# Altium footprint library Footprints.PcbLib: 146 footprints (part 2 of 10)
Each footprint in its own frame and in the unit in brackets; x right, y up, seen from the top. Pads: shape width x height; smd on the part's side, far side on the other; paste and mask are expansions set on the pad; w line width, h text height; cw(c..) or ccw(c..) is an arc to the next point about the centre after c.
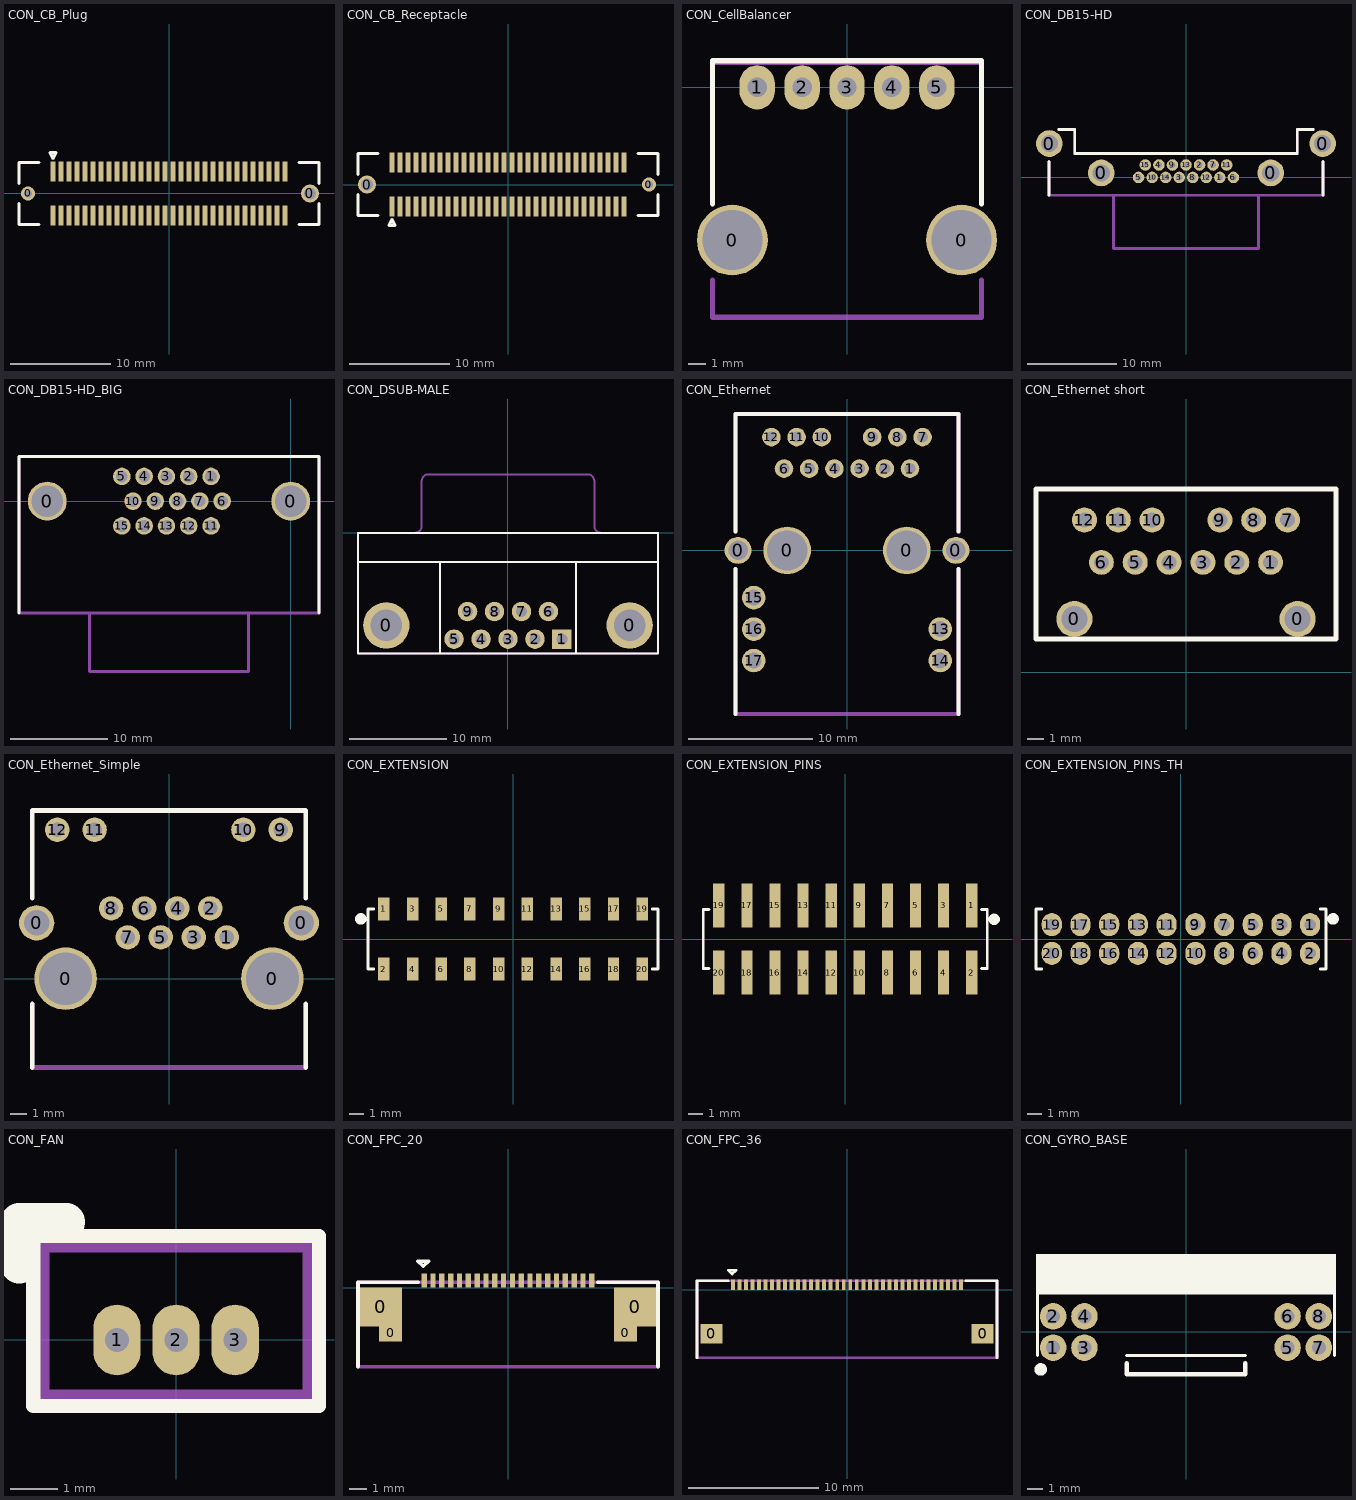
[diagram p1: the footprints below, top view; thin cyan lines are the x and y axes]

## CON_CB_Plug [mm] "Baseboard to Connector board - Baseboard side - 179031-2"
height 8
pads (62):
  round 1.4 hole 0.8: 0(-14.1,0)
  round 1.8 hole 1.2: 0(14.1,0)
  rect 0.5x2 smd: 1(-11.6,2.2) 2(-11.6,-2.2) 3(-10.8,2.2) 4(-10.8,-2.2) 5(-10,2.2) 6(-10,-2.2) 7(-9.2,2.2) 8(-9.2,-2.2) 9(-8.4,2.2) 10(-8.4,-2.2) 11(-7.6,2.2) 12(-7.6,-2.2) 13(-6.8,2.2) 14(-6.8,-2.2) 15(-6,2.2) 16(-6,-2.2) 17(-5.2,2.2) 18(-5.2,-2.2) 19(-4.4,2.2) 20(-4.4,-2.2) 21(-3.6,2.2) 22(-3.6,-2.2) 23(-2.8,2.2) 24(-2.8,-2.2) 25(-2,2.2) 26(-2,-2.2) 27(-1.2,2.2) 28(-1.2,-2.2) 29(-0.4,2.2) 30(-0.4,-2.2) 31(0.4,2.2) 32(0.4,-2.2) 33(1.2,2.2) 34(1.2,-2.2) 35(2,2.2) 36(2,-2.2) 37(2.8,2.2) 38(2.8,-2.2) 39(3.6,2.2) 40(3.6,-2.2) 41(4.4,2.2) 42(4.4,-2.2) 43(5.2,2.2) 44(5.2,-2.2) 45(6,2.2) 46(6,-2.2) 47(6.8,2.2) 48(6.8,-2.2) 49(7.6,2.2) 50(7.6,-2.2) 51(8.4,2.2) 52(8.4,-2.2) 53(9.2,2.2) 54(9.2,-2.2) 55(10,2.2) 56(10,-2.2) 57(10.8,2.2) 58(10.8,-2.2) 59(11.6,2.2) 60(11.6,-2.2)
Top Overlay:
  lines w0.3: -15,-1 -15,-3.1 -13,-3.1 ; -15,1 -15,3.1 -13,3.1 ; 13,-3.1 15,-3.1 15,-1 ; 13,3.1 15,3.1 15,1 ; -11.9,4.1 -11.6,3.5 -11.3,4.1 -11.9,4.1

## CON_CB_Receptacle [mm] "Baseboard to Connector board - CB side - 177983-2"
height 8
pads (62):
  round 1.8 hole 1.2: 0(-14.1,0)
  round 1.4 hole 0.8: 0(14.1,0)
  rect 0.5x2 smd: 1(-11.6,-2.2) 2(-11.6,2.2) 3(-10.8,-2.2) 4(-10.8,2.2) 5(-10,-2.2) 6(-10,2.2) 7(-9.2,-2.2) 8(-9.2,2.2) 9(-8.4,-2.2) 10(-8.4,2.2) 11(-7.6,-2.2) 12(-7.6,2.2) 13(-6.8,-2.2) 14(-6.8,2.2) 15(-6,-2.2) 16(-6,2.2) 17(-5.2,-2.2) 18(-5.2,2.2) 19(-4.4,-2.2) 20(-4.4,2.2) 21(-3.6,-2.2) 22(-3.6,2.2) 23(-2.8,-2.2) 24(-2.8,2.2) 25(-2,-2.2) 26(-2,2.2) 27(-1.2,-2.2) 28(-1.2,2.2) 29(-0.4,-2.2) 30(-0.4,2.2) 31(0.4,-2.2) 32(0.4,2.2) 33(1.2,-2.2) 34(1.2,2.2) 35(2,-2.2) 36(2,2.2) 37(2.8,-2.2) 38(2.8,2.2) 39(3.6,-2.2) 40(3.6,2.2) 41(4.4,-2.2) 42(4.4,2.2) 43(5.2,-2.2) 44(5.2,2.2) 45(6,-2.2) 46(6,2.2) 47(6.8,-2.2) 48(6.8,2.2) 49(7.6,-2.2) 50(7.6,2.2) 51(8.4,-2.2) 52(8.4,2.2) 53(9.2,-2.2) 54(9.2,2.2) 55(10,-2.2) 56(10,2.2) 57(10.8,-2.2) 58(10.8,2.2) 59(11.6,-2.2) 60(11.6,2.2)
Top Overlay:
  lines w0.3: -15,-1 -15,-3.1 -13,-3.1 ; -15,1 -15,3.1 -13,3.1 ; 13,-3.1 15,-3.1 15,-1 ; 13,3.1 15,3.1 15,1 ; -11.9,-4.1 -11.6,-3.5 -11.3,-4.1 -11.9,-4.1

## CON_CellBalancer [mm] "Connector for a 5-pin Cell Balancer"
height 4.2
pads (7):
  round 4 hole 3.4: 0(-6.48,-8.636) 0(6.48,-8.636)
  oval 2x2.5 hole 1.1: 1(-5.08,0) 2(-2.54,0) 3(0,0) 4(2.54,0) 5(5.08,0)
Top Overlay:
  lines w0.3: -7.6,-6.6 -7.6,-1.5 -7.6,1.5 7.6,1.5 7.6,-1.5 7.6,-6.6
Mechanical 1:
  lines w0.3: -7.6,-10.9 -7.6,-13 7.6,-13 7.6,-10.9 ; -7.6,-6.6 -7.6,-1.5 -7.6,1.4 7.6,1.4 7.6,-1.5 7.6,-6.6

## CON_DB15-HD [mm] "DB15 HD connector - 15 pins"
height 12.5
pads (19):
  round 3 hole 1.93: 0(-15.367,3.81) 0(-9.525,0.508) 0(9.525,0.508) 0(15.367,3.81)
  round 1.3 hole 0.7: 1(3.81,0) 2(1.524,1.4) 3(-0.762,0) 4(-3.048,1.4) 5(-5.334,0) 6(5.334,0) 7(3.048,1.4) 8(0.762,0) 9(-1.524,1.4) 10(-3.81,0) 11(4.572,1.4) 12(2.286,0) 13(0,1.4) 14(-2.286,0) 15(-4.572,1.4)
Top Overlay:
  lines w0.3: -15.4,-2 -15.4,1.8 ; -15.4,3.8 -15.4,4.5 ; -14.3,5.4 -12.5,5.4 -12.5,2.7 12.5,2.7 12.5,5.4 14.3,5.4 ; 15.4,-2 15.4,1.8 ; 15.4,3.8 15.4,4.5
Mechanical 1:
  lines w0.3: -15.4,1.8 -15.4,-2 15.4,-2 15.4,1.8 ; -14.3,5.4 -12.5,5.4 -12.5,2.7 12.5,2.7 12.5,5.4 14.3,5.4 ; -8.15,-2.1 -8.15,-8 8.15,-8 8.15,-2.1

## CON_DB15-HD_BIG [mm] "DB15 HD connector - 15 pins"
height 12.5
pads (17):
  round 4 hole 3.2: 0(-25,0) 0(0,0)
  round 1.8 hole 1.2: 1(-8.18,2.54) 2(-10.47,2.54) 3(-12.76,2.54) 4(-15.05,2.54) 5(-17.34,2.54) 6(-7.04,0) 7(-9.33,0) 8(-11.62,0) 9(-13.91,0) 10(-16.2,0) 11(-8.18,-2.54) 12(-10.47,-2.54) 13(-12.76,-2.54) 14(-15.05,-2.54) 15(-17.34,-2.54)
Top Overlay:
  lines w0.3: -27.9,-11.5 -27.9,4.6 2.9,4.6 2.9,-11.5
Mechanical 1:
  lines w0.3: -20.65,-11.5 -20.65,-17.5 -4.35,-17.5 -4.35,-11.5 ; -27.9,-11.5 2.9,-11.5 2.9,4.6 -27.9,4.6 -27.9,-11.5

## CON_DSUB-MALE [mm] "Connector; MALE D Subminiature; 9 Position; Right Angle; Pitch 1.385 mm"
height 12.75
pads (11):
  round 4.76 hole 3.26: 0(-12.495,-9.5) 0(12.495,-9.5)
  rect 2x2 hole 1.15: 1(5.54,-10.92)
  round 2 hole 1.15: 2(2.77,-10.92) 3(0,-10.92) 4(-2.77,-10.92) 5(-5.54,-10.92) 6(4.155,-8.08) 7(1.385,-8.08) 8(-1.385,-8.08) 9(-4.155,-8.08)
Top Overlay:
  lines w0.2: -15.4,-3 15.4,-3 ; -7,-12.4 -7,-3 ; 7,-12.4 7,-3 ; -15.4,-12.4 15.4,-12.4 15.4,0 -15.4,0 -15.4,-12.4
Mechanical 1:
  lines w0.2: -15.4,-3 15.4,-3 ; -9.56,0.005 ccw(c-9.56,0.7) -8.865,0.7 -8.865,5.3 ; -8.86,5.305 cw(c-8.165,5.305) -8.165,6 8.165,6 cw(c8.165,5.305) 8.86,5.305 ; -7,-12.4 -7,-3 ; 7,-12.4 7,-3 ; 8.865,5.3 8.865,0.7 ccw(c9.56,0.7) 9.56,0.005 ; -15.4,-12.4 15.4,-12.4 15.4,0 -15.4,0 -15.4,-12.4

## CON_Ethernet [mm] "Ethernet Connector with Integrated Magnetics"
height 11.3
pads (21):
  round 2.17 hole 1.57: 0(-8.79,0) 0(8.79,0)
  round 3.84 hole 3.24: 0(-4.825,0) 0(4.825,0)
  round 1.5 hole 0.9: 1(5.08,6.6) 2(3.048,6.6) 3(1.016,6.6) 4(-1.016,6.6) 5(-3.048,6.6) 6(-5.08,6.6) 7(6.096,9.14) 8(4.064,9.14) 9(2.032,9.14) 10(-2.032,9.14) 11(-4.064,9.14) 12(-6.096,9.14)
  round 1.9 hole 1.27: 13(7.52,-6.35) 14(7.52,-8.89) 15(-7.52,-3.81) 16(-7.52,-6.35) 17(-7.52,-8.89)
Top Overlay:
  lines w0.3: -9,-13.2 -9,-1.5 ; -9,1.5 -9,11 9,11 9,1.5 ; 9,-13.2 9,-1.5
Mechanical 1:
  lines w0.3: -9,-1.5 -9,-13.2 9,-13.2 9,-1.5 ; -9,1.5 -9,11 9,11 9,1.5

## CON_Ethernet short [mm] "Ethernet Connector with Integrated Magnetics"
height 11.3
pads (14):
  round 2.17 hole 1.57: 0(-6.7,3.2) 0(6.7,3.2)
  round 1.5 hole 0.9: 1(5.08,6.6) 2(3.048,6.6) 3(1.016,6.6) 4(-1.016,6.6) 5(-3.048,6.6) 6(-5.08,6.6) 7(6.096,9.14) 8(4.064,9.14) 9(2.032,9.14) 10(-2.032,9.14) 11(-4.064,9.14) 12(-6.096,9.14)
Top Overlay:
  lines w0.3: -9,2 9,2 9,11 -9,11 -9,2

## CON_Ethernet_Simple [mm] "Ethernet Connector"
height 13.4
pads (16):
  round 2.17 hole 1.57: 0(-8.128,3.429) 0(8.128,3.429)
  round 3.84 hole 3.24: 0(-6.35,0) 0(6.35,0)
  round 1.5 hole 0.9: 1(3.556,2.54) 2(2.54,4.318) 3(1.524,2.54) 4(0.508,4.318) 5(-0.508,2.54) 6(-1.524,4.318) 7(-2.54,2.54) 8(-3.556,4.318) 9(6.858,9.144) 10(4.572,9.144) 11(-4.572,9.144) 12(-6.858,9.144)
Top Overlay:
  lines w0.3: -8.4,-5.461 -8.4,-1.561 ; -8.4,4.939 -8.4,10.339 8.4,10.339 8.4,4.939 ; 8.4,-5.461 8.4,-1.561
Mechanical 1:
  lines w0.3: -8.4,-1.561 -8.4,-5.461 8.4,-5.461 8.4,-1.561

## CON_EXTENSION [mm] "Extension connector"
height 5
pads (20):
  rect 0.8x1.6 smd: 1(-9,2.1) 2(-9,-2.1) 3(-7,2.1) 4(-7,-2.1) 5(-5,2.1) 6(-5,-2.1) 7(-3,2.1) 8(-3,-2.1) 9(-1,2.1) 10(-1,-2.1) 11(1,2.1) 12(1,-2.1) 13(3,2.1) 14(3,-2.1) 15(5,2.1) 16(5,-2.1) 17(7,2.1) 18(7,-2.1) 19(9,2.1) 20(9,-2.1)
Top Overlay:
  circle w0.4: c-10.6,1.4 r0.2
  lines w0.2: -9.7,-2.1 -10.1,-2.1 -10.1,2.1 -9.7,2.1 ; 9.7,-2.1 10.1,-2.1 10.1,2.1 9.7,2.1

## CON_EXTENSION_PINS [mm] "Extension connector"
height 5
pads (20):
  rect 0.8x3.1 smd: 1(9,2.385) 2(9,-2.385) 3(7,2.385) 4(7,-2.385) 5(5,2.385) 6(5,-2.385) 7(3,2.385) 8(3,-2.385) 9(1,2.385) 10(1,-2.385) 11(-1,2.385) 12(-1,-2.385) 13(-3,2.385) 14(-3,-2.385) 15(-5,2.385) 16(-5,-2.385) 17(-7,2.385) 18(-7,-2.385) 19(-9,2.385) 20(-9,-2.385)
Top Overlay:
  circle w0.4: c10.6,1.4 r0.2
  lines w0.2: -9.7,-2.1 -10.1,-2.1 -10.1,2.1 -9.7,2.1 ; 9.7,-2.1 10.1,-2.1 10.1,2.1 9.7,2.1

## CON_EXTENSION_PINS_TH [mm] "Extension connector (through hole)"
height 5
pads (20):
  oval 1.4x1.6 hole 0.813: 1(9,1) 2(9,-1) 3(7,1) 4(7,-1) 5(5,1) 6(5,-1) 7(3,1) 8(3,-1) 9(1,1) 10(1,-1) 11(-1,1) 12(-1,-1) 13(-3,1) 14(-3,-1) 15(-5,1) 16(-5,-1) 17(-7,1) 18(-7,-1) 19(-9,1) 20(-9,-1)
Top Overlay:
  circle w0.4: c10.6,1.4 r0.2
  lines w0.2: -9.7,-2.1 -10.1,-2.1 -10.1,2.1 -9.7,2.1 ; 9.7,-2.1 10.1,-2.1 10.1,2.1 9.7,2.1

## CON_FAN [mm] "Cooling Fan Connector"
pads (3):
  oval 1x1.5 hole 0.5: 1(-1.25,0) 2(0,0) 3(1.25,0)
Top Overlay:
  lines w0.3: -3.025,-1.4 -3.025,2.2 ; -3,-1.4 3.025,-1.4 3.025,2.2 -3,2.2
  lines w0.8: -3.325,1.6 -3.325,2.5 -2.325,2.5
Mechanical 1:
  lines w0.3: -2.825,-1.2 2.825,-1.2 2.825,2 -2.825,2 -2.825,-1.2

## CON_FPC_20 [mm] "FPC connector 0.5mm pitch"
pads (24):
  rect 2.4x2.2 smd: 0(-7.2,-1.1) 0(7.2,-1.1)
  rect 1.3x0.95 smd: 0(-6.65,-2.575) 0(6.65,-2.575)
  rect 0.3x0.8 smd: 1(-4.75,0.4) 2(-4.25,0.4) 3(-3.75,0.4) 4(-3.25,0.4) 5(-2.75,0.4) 6(-2.25,0.4) 7(-1.75,0.4) 8(-1.25,0.4) 9(-0.75,0.4) 10(-0.25,0.4) 11(0.25,0.4) 12(0.75,0.4) 13(1.25,0.4) 14(1.75,0.4) 15(2.25,0.4) 16(2.75,0.4) 17(3.25,0.4) 18(3.75,0.4) 19(4.25,0.4) 20(4.75,0.4)
Top Overlay:
  lines w0.2: -8.5,-4.5 -8.5,0.3 -5.1,0.3 ; 5.1,0.3 8.5,0.3 8.5,-4.5 ; -5.1,1.5 -4.8,1.2 -4.5,1.5 -5.1,1.5
Mechanical 1:
  lines w0.2: -8.5,-4.5 -8.5,0.3 8.5,0.3 8.5,-4.5 -8.5,-4.5

## CON_FPC_36 [mm] "FPC connector 0.5mm pitch"
pads (38):
  rect 1.7x1.5 smd: 0(-10.4,-3.35) 0(10.4,-3.35)
  rect 0.3x0.8 smd: 1(-8.75,0.4) 2(-8.25,0.4) 3(-7.75,0.4) 4(-7.25,0.4) 5(-6.75,0.4) 6(-6.25,0.4) 7(-5.75,0.4) 8(-5.25,0.4) 9(-4.75,0.4) 10(-4.25,0.4) 11(-3.75,0.4) 12(-3.25,0.4) 13(-2.75,0.4) 14(-2.25,0.4) 15(-1.75,0.4) 16(-1.25,0.4) 17(-0.75,0.4) 18(-0.25,0.4) 19(0.25,0.4) 20(0.75,0.4) 21(1.25,0.4) 22(1.75,0.4) 23(2.25,0.4) 24(2.75,0.4) 25(3.25,0.4) 26(3.75,0.4) 27(4.25,0.4) 28(4.75,0.4) 29(5.25,0.4) 30(5.75,0.4) 31(6.25,0.4) 32(6.75,0.4) 33(7.25,0.4) 34(7.75,0.4) 35(8.25,0.4) 36(8.75,0.4)
Top Overlay:
  lines w0.2: -11.5,-5.2 -11.5,0.7 -9.1,0.7 ; 9.1,0.7 11.5,0.7 11.5,-5.2 ; -9.1,1.5 -8.8,1.2 -8.5,1.5 -9.1,1.5
Mechanical 1:
  lines w0.2: -11.5,-5.2 -11.5,0.7 11.5,0.7 11.5,-5.2 -11.5,-5.2

## CON_GYRO_BASE [mm]
height 4.3
pads (8):
  round 1.7 hole 0.9: 1(-8.5,-1) 2(-8.5,1) 3(-6.5,-1) 4(-6.5,1) 5(6.5,-1) 6(6.5,1) 7(8.5,-1) 8(8.5,1)
Top Overlay:
  circle w0.4: c-9.3,-2.4 r0.2
  rectangle: -9.6,2.5 9.6,5
  lines w0.2: -9.5,-1.5 -9.5,2.5 9.5,2.5 9.5,-1.5 ; -3.8,-1.5 3.8,-1.5
  lines w0.3: -3.8,-2 -3.8,-2.7 3.8,-2.7 3.8,-2